# Altium footprint library BarelangRobotics.PcbLib: 67 footprints (part 5 of 5)
Each footprint in its own frame and in the unit in brackets; x right, y up, seen from the top. Pads: shape width x height; smd on the part's side, far side on the other; paste and mask are expansions set on the pad; w line width, h text height; cw(c..) or ccw(c..) is an arc to the next point about the centre after c.
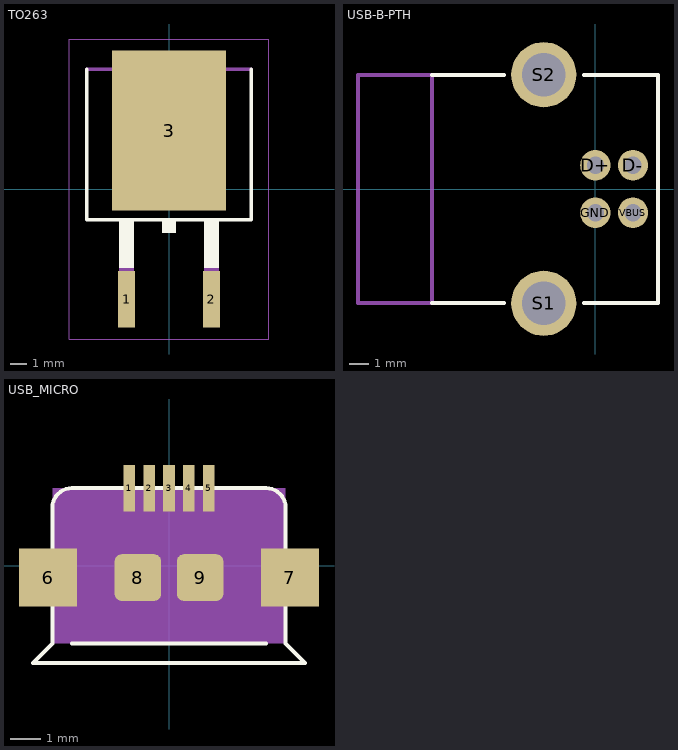
[diagram p4: the footprints below, top view; thin cyan lines are the x and y axes]

## TO263 [mm]
pads (3):
  rect 1x3.4 smd: 1(-2.54,-6.6) 2(2.54,-6.6)
  rect 6.8x9.6 smd: 3(0,3.5)
Top Overlay:
  rectangle: 2.09,-4.74 2.99,-1.94
  rectangle: -2.99,-4.74 -2.09,-1.94
  rectangle: -0.432,-2.643 0.432,-1.881
  lines w0.203: -4.917,7.165 -4.917,-1.839 4.917,-1.839 4.917,7.165
Mechanical 16:
  rectangle: 2.1,-7.5 3,-4.7
  rectangle: -3,-7.5 -2.1,-4.7
  region: 0,0 0.254,0 0.254,0.254 0,0.254
  lines w0.203: -4.917,7.165 4.917,7.165 ; -2.565,7.267 2.565,7.267 2.565,7.678 2.108,8.135 -2.108,8.135 -2.565,7.678 -2.565,7.267
Mechanical 27:
  lines w0.051: -5.973,-8.983 -5.973,8.983 5.973,8.983 5.973,-8.983 -5.973,-8.983

## USB-B-PTH [mil]
pads (6):
  round 62.99 hole 35.43: D+(0,49.21) D-(78,49.21) GND(0,-49.21) VBUS(78,-49.21)
  round 135 hole 90: S1(-107,-237) S2(-107,237)
Top Overlay:
  lines w8: -338.58,-236.22 -188.98,-236.22 ; -338.58,236.22 -188.98,236.22 ; -23.62,-236.22 129.92,-236.22 129.92,236.22 -23.62,236.22
Mechanical 16:
  lines w8: -492.13,-236.22 -492.13,236.22 -338.58,236.22 -338.58,-236.22 -492.13,-236.22

## USB_MICRO [mil]
pads (9):
  rect 14.96x59.84 smd: 1(-51.18,100) 2(-25.59,100) 3(0,100) 4(25.59,100) 5(51.18,100)
  rect 74.8x74.8 smd: 6(-155.51,-15) 7(155.51,-15)
  rrect30% 60x60 smd: 8(-40,-15) 9(40,-15)
Top Overlay:
  lines w5: -125,-100 125,-100 ; -175,-125 175,-125 150,-100 150,75 ccw(c125,75) 125,100 -125,100 ccw(c-125,75) -150,75 -150,-100 -175,-125
Mechanical 27:
  rectangle: -150,-100 150,100